# EAGLE library part 61303225721 (library Board-to-Board (rev18a))
WR-PHD 2.54mm Dual Socket Header Bottom Entry, 32 Pins =>Code : Con_BTB_SHD_2.54_2_61303225721 <http://katalog.we-online.de/media/images/eican/Con_BTB_SHD_2.54_2_6130xx25721_pf2.jpg> Details see: http://katalog.we-online.de/en/em/613_0xx_257_21 Created 2014-05-30, Karrer Zheng 2014 (C) Würth Elektronik
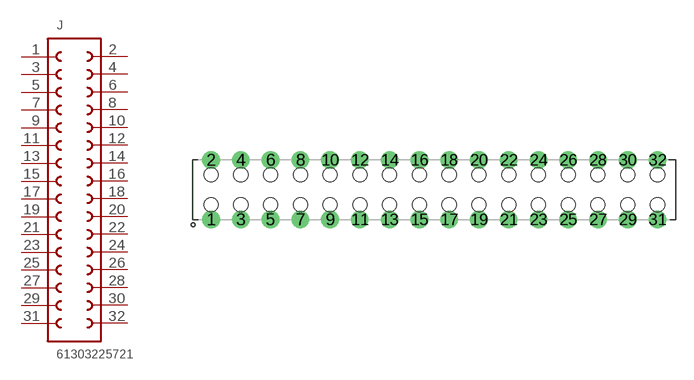
[diagram p161: symbol with the pads of 61303225721; footprint 61303225721]

Designator prefix J

## 61303225721  [61303225721]
1  1  pas
2  32  pas
3  2  pas
4  31  pas
5  3  pas
6  30  pas
7  4  pas
8  29  pas
9  5  pas
10  28  pas
11  6  pas
12  27  pas
13  7  pas
14  26  pas
15  8  pas
16  25  pas
17  9  pas
18  24  pas
19  10  pas
20  23  pas
21  11  pas
22  22  pas
23  12  pas
24  21  pas
25  13  pas
26  20  pas
27  14  pas
28  19  pas
29  15  pas
30  18  pas
31  16  pas
32  17  pas

## Footprint 61303225721 (pad centres in mm)
WR-PHD 2.54mm Dual Socket Header Bottom Entry, 32 Pins
drill 1 pad 1.4: 1 -19.05,-2.54; 2 -19.05,2.54; 3 -16.51,-2.54; 4 -16.51,2.54; 5 -13.97,-2.54; 6 -13.97,2.54; 7 -11.43,-2.54; 8 -11.43,2.54; 9 -8.89,-2.54; 10 -8.89,2.54; 11 -6.35,-2.54; 12 -6.35,2.54; 13 -3.81,-2.54; 14 -3.81,2.54; 15 -1.27,-2.54; 16 -1.27,2.54; 17 1.27,-2.54; 18 1.27,2.54; 19 3.81,-2.54; 20 3.81,2.54; 21 6.35,-2.54; 22 6.35,2.54; 23 8.89,-2.54; 24 8.89,2.54; 25 11.43,-2.54; 26 11.43,2.54; 27 13.97,-2.54; 28 13.97,2.54; 29 16.51,-2.54; 30 16.51,2.54; 31 19.05,-2.54; 32 19.05,2.54
hole 1.2 at -19.05,1.27
hole 1.2 at -16.51,1.27
hole 1.2 at -16.51,-1.27
hole 1.2 at -19.05,-1.27
hole 1.2 at -13.97,-1.27
hole 1.2 at -13.97,1.27
hole 1.2 at -11.43,1.27
hole 1.2 at -11.43,-1.27
hole 1.2 at -8.89,1.27
hole 1.2 at -8.89,-1.27
hole 1.2 at -6.35,-1.27
hole 1.2 at -6.35,1.27
hole 1.2 at -3.81,1.27
hole 1.2 at -3.81,-1.27
hole 1.2 at -1.27,-1.27
hole 1.2 at -1.27,1.27
hole 1.2 at 1.27,-1.27
hole 1.2 at 1.27,1.27
hole 1.2 at 3.81,1.27
hole 1.2 at 3.81,-1.27
hole 1.2 at 6.35,-1.27
hole 1.2 at 6.35,1.27
hole 1.2 at 8.89,-1.27
hole 1.2 at 8.89,1.27
hole 1.2 at 11.43,-1.27
hole 1.2 at 11.43,1.27
hole 1.2 at 13.97,-1.27
hole 1.2 at 13.97,1.27
hole 1.2 at 16.51,1.27
hole 1.2 at 16.51,-1.27
hole 1.2 at 19.05,1.27
hole 1.2 at 19.05,-1.27